# EAGLE library part AP62150 (library pimoroni-ics)
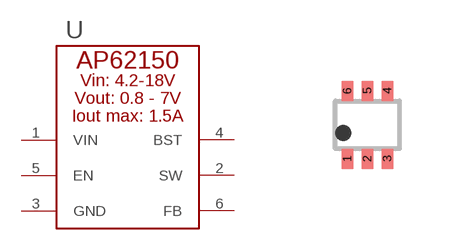
[diagram p43: symbol with the pads of SOT563; footprint SOT563]

Designator prefix U

## AP62150  [SOT563]
1  VIN
2  SW
3  GND
4  BST
5  EN
6  FB

## Footprint SOT563 (pad centres in mm)
smd 0.3 x 0.5: 1 -0.5,-0.85; 2 0,-0.85; 3 0.5,-0.85; 4 0.5,0.85; 5 0,0.85; 6 -0.5,0.85